# Altium schematic symbol library SERIAL-NUMBER.SchLib: 1 symbol
Pins are listed as number, name and electrical type; pins without a type are passive.

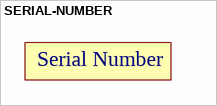
[diagram p0: symbol SERIAL-NUMBER]

## SERIAL-NUMBER
designator SN  (value not drawn)
text: Serial Number